# Altium footprint library HC05.PcbLib: 6 footprints
Each footprint in its own frame and in the unit in brackets; x right, y up, seen from the top. Pads: shape width x height; smd on the part's side, far side on the other; paste and mask are expansions set on the pad; w line width, h text height; cw(c..) or ccw(c..) is an arc to the next point about the centre after c.
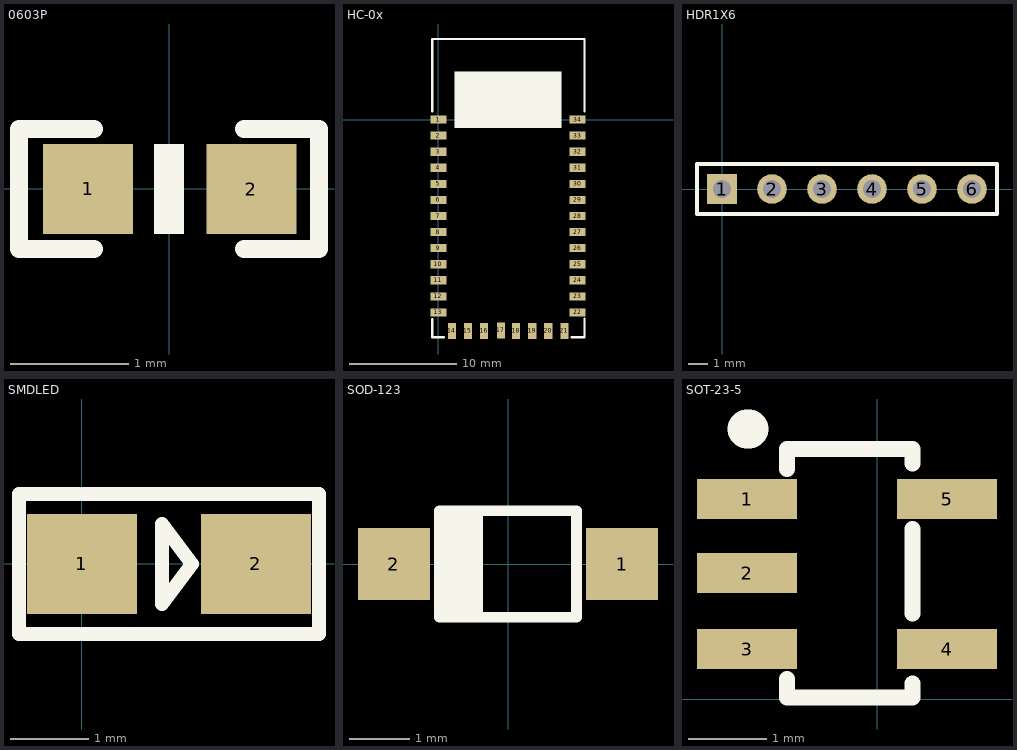
[diagram p0: the footprints below, top view; thin cyan lines are the x and y axes]

## 0603P [mil]
pads (2):
  rect 30x30 smd: 1(-27,0) 2(27.5,-0.06)
Top Overlay:
  region: 5,-15.06 5,14.94 -5,14.94 -5,-15.06
  lines w6: -25,-20.06 -50,-20.06 -50,19.94 -25,19.94 ; 25,-20.06 50,-20.06 50,19.94 25,19.94

## HC-0x [mm]
pads (34):
  rect 1.5x0.76 smd: 1(0,0) 2(0,-1.5) 3(0,-3) 4(0,-4.5) 5(0,-6) 6(0,-7.5) 7(0,-9) 8(0,-10.5) 9(0,-12) 10(0,-13.5) 11(0,-15) 12(0,-16.5) 13(0,-18) 22(13,-18) 23(13,-16.5) 24(13,-15) 25(13,-13.5) 26(13,-12) 27(13,-10.5) 28(13,-9) 29(13,-7.5) 30(13,-6) 31(13,-4.5) 32(13,-3) 33(13,-1.5) 34(13,0)
  rect 0.76x1.5 smd: 14(1.26,-19.73) 15(2.76,-19.73) 16(4.26,-19.73) 17(5.842,-19.685) 18(7.26,-19.73) 19(8.76,-19.73) 20(10.26,-19.73) 21(11.76,-19.73)
Top Overlay:
  region: 11.5,-0.8 11.5,4.5 1.5,4.5 1.5,-0.8
  lines w0.203: -0.57,-18.599 -0.57,-20.32 0.516,-20.32 -0.5,-20.32 ; -0.57,0.762 -0.57,7.52 13.63,7.52 13.63,0.762 ; 12.454,-20.32 13.63,-20.32 13.63,-18.566

## HDR1X6 [mm]
pads (6):
  rect 1.5x1.5 hole 0.9: 1(0,0)
  round 1.5 hole 0.9: 2(2.54,0) 3(5.08,0) 4(7.62,0) 5(10.16,0) 6(12.7,0)
Top Overlay:
  lines w0.2: -1.27,-1.27 13.97,-1.27 13.97,1.27 -1.27,1.27 -1.27,-1.27

## SMDLED [mm]
pads (2):
  rect 1.4x1.27 smd: 1(0.001,-0.002) 2(2.211,-0.002)
Top Overlay:
  lines w0.178: 3.012,0.887 3.011,0.887 ; 3.011,0.887 3.011,-0.891 -0.799,-0.891 -0.799,-0.002 -0.799,0.887 3.011,0.887 ; 1.017,-0.51 1.017,0.506 1.398,-0.002 1.017,-0.51

## SOD-123 [mm]
pads (2):
  rect 1.2x1.2 smd: 1(1.905,0) 2(-1.905,0)
Top Overlay:
  rectangle: -1.143,-0.889 -0.508,0.889
  lines w0.178: -0.508,-0.889 -0.508,0.889 ; -1.143,-0.889 1.143,-0.889 1.143,-0.445 1.143,0.445 1.143,0.889 -1.143,0.889 -1.143,-0.889

## SOT-23-5 [mil]
pads (5):
  rect 50x20 smd: 1(-65,100) 2(-65,63) 3(-65,25) 4(35,25) 5(35,100)
Top Overlay:
  lines w8: -45,10 -45,0.68 17.76,0.68 17.76,7.76 ; -45,115 -45,125 17.76,125 17.76,117.76 ; 17.76,42.76 17.76,85
  lines w19.68: -65,135 -64,135